# EAGLE library part COCO3_RAM_EXPANSION (library coco)
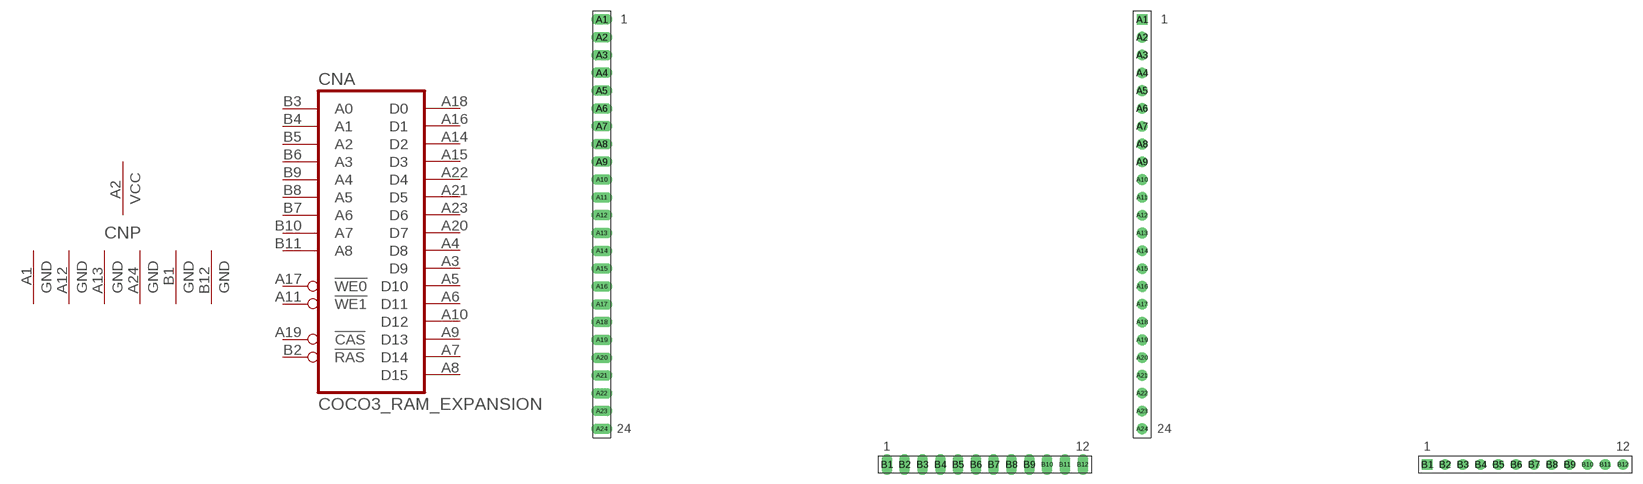
[diagram p3: symbol with the pads of RAM_EXPANSION; footprints RAM_EXPANSION, RAM_EXPANSION-RP]

Designator prefix CN; gates A=RAM_EXPANSION P=PWR-GND6

## COCO3_RAM_EXPANSION  [RAM_EXPANSION]
A1  P:GND  pwr
A2  P:VCC  pwr
A3  A:D9
A4  A:D8
A5  A:D10
A6  A:D11
A7  A:D14
A8  A:D15
A9  A:D13
A10  A:D12
A11  A:!WE1  out
A12  P:GND  pwr
A13  P:GND  pwr
A14  A:D2
A15  A:D3
A16  A:D1
A17  A:!WE0  out
A18  A:D0
A19  A:!CAS  out
A20  A:D7
A21  A:D5
A22  A:D4
A23  A:D6
A24  P:GND  pwr
B1  P:GND  pwr
B2  A:!RAS  out
B3  A:A0  out
B4  A:A1  out
B5  A:A2  out
B6  A:A3  out
B7  A:A6  out
B8  A:A5  out
B9  A:A4  out
B10  A:A7  out
B11  A:A8  out
B12  P:GND  pwr

## COCO3_RAM_EXPANSION-RP  [RAM_EXPANSION-RP]
Pads as for RAM_EXPANSION

## COCO3_RAM_EXPANSION-R  [RAM_EXPANSION_REV]
Pads as for RAM_EXPANSION

## COCO3_RAM_EXPANSION-RRP  [RAM_EXPANSION_REV_RP]
Pads as for RAM_EXPANSION

## Footprint RAM_EXPANSION (pad centres in mm)
TANDY Color Computer 3 RAM Expansion Socket
drill 1.016 long: A1 -34.29,31.75; A2 -34.29,29.21; A3 -34.29,26.67; A4 -34.29,24.13; A5 -34.29,21.59; A6 -34.29,19.05; A7 -34.29,16.51; A8 -34.29,13.97; A9 -34.29,11.43; A10 -34.29,8.89; A11 -34.29,6.35; A12 -34.29,3.81; A13 -34.29,1.27; A14 -34.29,-1.27; A15 -34.29,-3.81; A16 -34.29,-6.35; A17 -34.29,-8.89; A18 -34.29,-11.43; A19 -34.29,-13.97; A20 -34.29,-16.51; A21 -34.29,-19.05; A22 -34.29,-21.59; A23 -34.29,-24.13; A24 -34.29,-26.67; B1 6.35,-31.75; B2 8.89,-31.75; B3 11.43,-31.75; B4 13.97,-31.75; B5 16.51,-31.75; B6 19.05,-31.75; B7 21.59,-31.75; B8 24.13,-31.75; B9 26.67,-31.75; B10 29.21,-31.75; B11 31.75,-31.75; B12 34.29,-31.75

## Footprint RAM_EXPANSION-RP (pad centres in mm)
TANDY Color Computer 3 RAM Expansion Socket
drill 1.016 square: A1 -34.29,31.75; B1 6.35,-31.75
drill 1.016: A2 -34.29,29.21; A3 -34.29,26.67; A4 -34.29,24.13; A5 -34.29,21.59; A6 -34.29,19.05; A7 -34.29,16.51; A8 -34.29,13.97; A9 -34.29,11.43; A10 -34.29,8.89; A11 -34.29,6.35; A12 -34.29,3.81; A13 -34.29,1.27; A14 -34.29,-1.27; A15 -34.29,-3.81; A16 -34.29,-6.35; A17 -34.29,-8.89; A18 -34.29,-11.43; A19 -34.29,-13.97; A20 -34.29,-16.51; A21 -34.29,-19.05; A22 -34.29,-21.59; A23 -34.29,-24.13; A24 -34.29,-26.67; B2 8.89,-31.75; B3 11.43,-31.75; B4 13.97,-31.75; B5 16.51,-31.75; B6 19.05,-31.75; B7 21.59,-31.75; B8 24.13,-31.75; B9 26.67,-31.75; B10 29.21,-31.75; B11 31.75,-31.75; B12 34.29,-31.75

## Footprint RAM_EXPANSION_REV (pad centres in mm)
TANDY Color Computer 3 RAM Expansion Socket
drill 1.016 long: A1 -34.29,31.75; A2 -34.29,29.21; A3 -34.29,26.67; A4 -34.29,24.13; A5 -34.29,21.59; A6 -34.29,19.05; A7 -34.29,16.51; A8 -34.29,13.97; A9 -34.29,11.43; A10 -34.29,8.89; A11 -34.29,6.35; A12 -34.29,3.81; A13 -34.29,1.27; A14 -34.29,-1.27; A15 -34.29,-3.81; A16 -34.29,-6.35; A17 -34.29,-8.89; A18 -34.29,-11.43; A19 -34.29,-13.97; A20 -34.29,-16.51; A21 -34.29,-19.05; A22 -34.29,-21.59; A23 -34.29,-24.13; A24 -34.29,-26.67; B1 6.35,-31.75; B2 8.89,-31.75; B3 11.43,-31.75; B4 13.97,-31.75; B5 16.51,-31.75; B6 19.05,-31.75; B7 21.59,-31.75; B8 24.13,-31.75; B9 26.67,-31.75; B10 29.21,-31.75; B11 31.75,-31.75; B12 34.29,-31.75

## Footprint RAM_EXPANSION_REV_RP (pad centres in mm)
TANDY Color Computer 3 RAM Expansion Socket
drill 1.016 square: A1 -34.29,31.75; B1 6.35,-31.75
drill 1.016: A2 -34.29,29.21; A3 -34.29,26.67; A4 -34.29,24.13; A5 -34.29,21.59; A6 -34.29,19.05; A7 -34.29,16.51; A8 -34.29,13.97; A9 -34.29,11.43; A10 -34.29,8.89; A11 -34.29,6.35; A12 -34.29,3.81; A13 -34.29,1.27; A14 -34.29,-1.27; A15 -34.29,-3.81; A16 -34.29,-6.35; A17 -34.29,-8.89; A18 -34.29,-11.43; A19 -34.29,-13.97; A20 -34.29,-16.51; A21 -34.29,-19.05; A22 -34.29,-21.59; A23 -34.29,-24.13; A24 -34.29,-26.67; B2 8.89,-31.75; B3 11.43,-31.75; B4 13.97,-31.75; B5 16.51,-31.75; B6 19.05,-31.75; B7 21.59,-31.75; B8 24.13,-31.75; B9 26.67,-31.75; B10 29.21,-31.75; B11 31.75,-31.75; B12 34.29,-31.75